# Altium footprint library DIODE_SMC.PcbLib: 1 footprints
Each footprint in its own frame and in the unit in brackets; x right, y up, seen from the top. Pads: shape width x height; smd on the part's side, far side on the other; paste and mask are expansions set on the pad; w line width, h text height; cw(c..) or ccw(c..) is an arc to the next point about the centre after c.
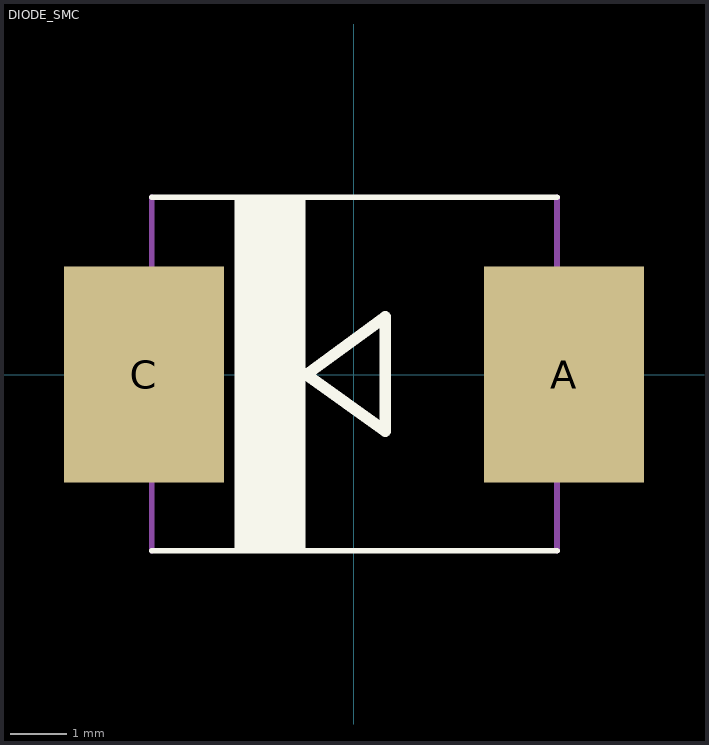
[diagram p0: the footprint, top view; thin cyan lines are the x and y axes]

## DIODE_SMC [mil]
pads (2):
  rect 111x150 smd: A(146,0) C(-145.67,0)
Top Overlay:
  rectangle: -82.68,-122.05 -33.46,123
  lines w4: -140.18,-122.24 141,-122.24 ; -140.18,123 141,123
  lines w8: -32.68,0 22,40 22,-39.37 -32.68,0
Mechanical 16:
  rectangle: -161.18,-43 -140.18,43
  rectangle: 141,-43 162,43
  lines w4: -140.18,-122.24 -140.18,123 ; 141,-122.24 141,123